# Altium footprint library common.PcbLib: 92 footprints (part 1 of 6)
Each footprint in its own frame and in the unit in brackets; x right, y up, seen from the top. Pads: shape width x height; smd on the part's side, far side on the other; paste and mask are expansions set on the pad; w line width, h text height; cw(c..) or ccw(c..) is an arc to the next point about the centre after c.
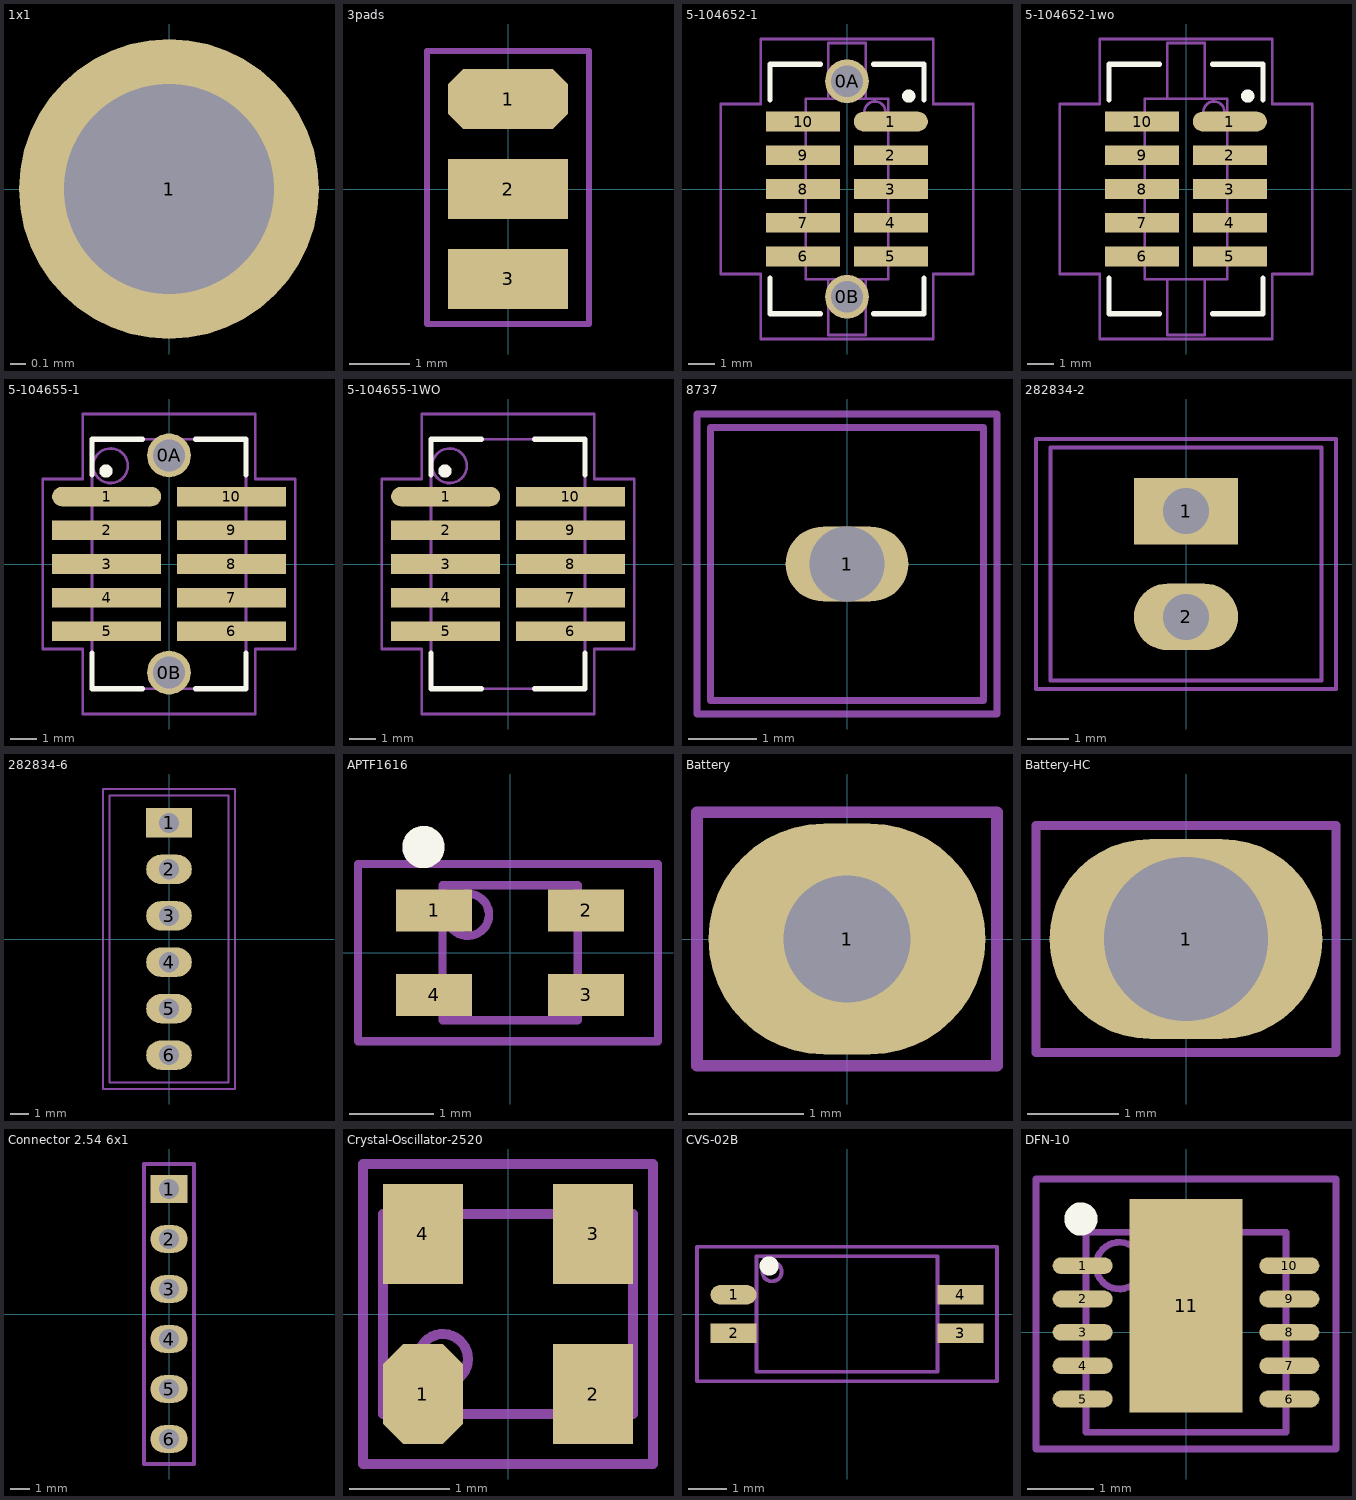
[diagram p0: the footprints below, top view; thin cyan lines are the x and y axes]

## 1x1 [mm] "Single hole connector"
pads (1):
  round 2 hole 1.4: 1(0,0)

## 3pads [mm] "Pads, Body 3x2mm, Pitch 2mm, IPC Low Density"
pads (3):
  oct 2x1 smd: 1(0,1.5)
  rect 2x1 smd: 2(0,0) 3(0,-1.5)
Mechanical 15:
  lines w0.1: -1.35,-2.25 1.35,-2.25 1.35,2.3 -1.35,2.3 -1.35,-2.25

## 5-104652-1 [mm] "2x5 Connector Female, Body 10.82x3.05mm, Pitch 1.27mm, IPC Low Density"
height 4.8
pads (12):
  round 1.65 hole 1.2: 0A(0,4.06) 0B(0,-4.06)
  oval 2.79x0.74 smd: 1(1.65,2.54)
  rect 2.79x0.74 smd: 2(1.65,1.27) 3(1.65,0) 4(1.65,-1.27) 5(1.65,-2.54) 6(-1.65,-2.54) 7(-1.65,-1.27) 8(-1.65,0) 9(-1.65,1.27) 10(-1.65,2.54)
Top Overlay:
  circle w0.25: c2.325,3.5 r0.125
  lines w0.2: -2.9,-3.35 -2.9,-4.7 -1,-4.7 ; -2.9,3.35 -2.9,4.7 -1,4.7 ; 1,-4.7 2.9,-4.7 2.9,-3.35 ; 1,4.7 2.9,4.7 2.9,3.35
Mechanical 13:
  circle w0.1: c1.052,2.9 r0.398
  lines w0.1: -0.7,-3.4 -0.7,-5.5 0.7,-5.5 0.7,-3.4 ; -0.7,3.4 -0.7,5.5 0.7,5.5 0.7,3.4 ; -1.55,-3.4 1.55,-3.4 1.55,3.4 -1.55,3.4 -1.55,-3.4
Mechanical 15:
  lines w0.1: 3.25,5.1 3.25,3.2 ; 3.25,3.2 3.25,5.65 -3.25,5.65 -3.25,3.2 -4.75,3.2 -4.75,-3.2 -3.25,-3.2 -3.25,-5.65 3.25,-5.65 3.25,-3.2 4.75,-3.2 4.75,3.2 3.25,3.2
3D body: height 7.8, standoff 6.45, extent -0.598,-4.67 0.598,-3.472
3D body: height 7.8, standoff 6.45, extent -0.598,3.45 0.598,4.648
3D body: height 2.5, standoff 0, extent -0.7,-5.5 0.7,-3.4
3D body: height 2.5, standoff 0, extent -0.7,3.4 0.7,5.5
3D body: height 4.8, standoff 0, extent -1.55,-3.4 1.55,3.4
3D body: height 6.45, standoff 4.8, extent -2.9,-4.7 2.9,4.7
3D body: height 6.45, standoff 1.65, extent -2.9,-4.7 -1.65,4.7
3D body: height 6.45, standoff 1.65, extent 1.65,-4.7 2.9,4.7
3D body: height 6.45, standoff 3.25, extent -1.65,3.5 1.65,4.7
3D body: height 6.45, standoff 3.25, extent -1.65,-4.7 1.65,-3.5

## 5-104652-1wo [mm] "2x5 Connector Female without holes, Body 10.82x3.05mm, Pitch 1.27mm, IPC Low Density"
height 4.8
pads (10):
  oval 2.79x0.74 smd: 1(1.65,2.54)
  rect 2.79x0.74 smd: 2(1.65,1.27) 3(1.65,0) 4(1.65,-1.27) 5(1.65,-2.54) 6(-1.65,-2.54) 7(-1.65,-1.27) 8(-1.65,0) 9(-1.65,1.27) 10(-1.65,2.54)
Top Overlay:
  circle w0.25: c2.325,3.5 r0.125
  lines w0.2: -2.9,-3.35 -2.9,-4.7 -1,-4.7 ; -2.9,3.35 -2.9,4.7 -1,4.7 ; 1,-4.7 2.9,-4.7 2.9,-3.35 ; 1,4.7 2.9,4.7 2.9,3.35
Mechanical 13:
  circle w0.1: c1.052,2.9 r0.398
  lines w0.1: -0.7,-3.4 -0.7,-5.5 0.7,-5.5 0.7,-3.4 ; -0.7,3.4 -0.7,5.5 0.7,5.5 0.7,3.4 ; -1.55,-3.4 -1.55,3.4 1.55,3.4 1.55,-3.4 -1.55,-3.4
Mechanical 15:
  lines w0.1: 3.25,5.1 3.25,3.2 ; 3.25,3.2 4.75,3.2 4.75,-3.2 3.25,-3.2 3.25,-5.65 -3.25,-5.65 -3.25,-3.2 -4.75,-3.2 -4.75,3.2 -3.25,3.2 -3.25,5.65 3.25,5.65 3.25,3.2
3D body: height 6.45, standoff 3.25, extent -1.65,-4.7 1.65,-3.5
3D body: height 6.45, standoff 3.25, extent -1.65,3.5 1.65,4.7
3D body: height 6.45, standoff 1.65, extent 1.65,-4.7 2.9,4.7
3D body: height 6.45, standoff 1.65, extent -2.9,-4.7 -1.65,4.7
3D body: height 6.45, standoff 4.8, extent -2.9,-4.7 2.9,4.7
3D body: height 4.8, standoff 0, extent -1.55,-3.4 1.55,3.4
3D body: height 2.5, standoff 0, extent -0.7,3.4 0.7,5.5
3D body: height 2.5, standoff 0, extent -0.7,-5.5 0.7,-3.4
3D body: height 7.8, standoff 6.45, extent -0.598,3.45 0.598,4.648
3D body: height 7.8, standoff 6.45, extent -0.598,-4.67 0.598,-3.472

## 5-104655-1 [mm] "2x5 Connector Male, Body 9.44x5.71mm, Pitch 1.27mm, IPC Low Density"
height 5.73
pads (12):
  round 1.65 hole 1.2: 0A(0,4.09) 0B(0,-4.09)
  oval 4.11x0.735 smd: 1(-2.35,2.54)
  rect 4.11x0.735 smd: 2(-2.35,1.27) 3(-2.35,0) 4(-2.35,-1.27) 5(-2.35,-2.54) 6(2.35,-2.54) 7(2.35,-1.27) 8(2.35,0) 9(2.35,1.27) 10(2.35,2.54)
Top Overlay:
  circle w0.25: c-2.375,3.5 r0.125
  lines w0.2: -2.9,-3.35 -2.9,-4.7 -1,-4.7 ; -2.9,3.35 -2.9,4.7 -1,4.7 ; 1,-4.7 2.9,-4.7 2.9,-3.35 ; 1,4.7 2.9,4.7 2.9,3.35
Mechanical 13:
  circle w0.1: c-2.202,3.7 r0.652
  lines w0.1: -2.9,-4.7 -2.9,4.7 2.9,4.7 2.9,-4.7 -2.9,-4.7
Mechanical 15:
  lines w0.1: 3.25,5.1 3.25,3.2 ; 3.25,3.2 4.75,3.2 4.75,-3.2 3.25,-3.2 3.25,-5.65 -3.25,-5.65 -3.25,-3.2 -4.75,-3.2 -4.75,3.2 -3.25,3.2 -3.25,5.65 3.25,5.65 3.25,3.2
3D body: height 6.45, standoff 3.95, extent -0.7,-5.45 0.7,-3.4
3D body: height 6.45, standoff 3.95, extent -0.7,3.4 0.7,5.45
3D body: height 6.45, standoff 1.65, extent -2.25,0.65 -1.55,3.4
3D body: height 6.45, standoff 1.65, extent -1.55,-3.4 1.55,3.4
3D body: height 5.8, standoff 0, extent -2.9,0.55 -2.3,3.45
3D body: height 1.65, standoff 0, extent -2.3,-3.45 1.65,3.45
3D body: height 3.1, standoff 0, extent -1,3.45 1,4.7
3D body: height 3.1, standoff 0, extent -1,-4.7 1,-3.45
3D body: height 5.8, standoff 0, extent 1,-4.7 2.9,-3.45
3D body: height 5.8, standoff 0, extent -2.9,-4.7 -1,-3.45
3D body: height 5.8, standoff 0, extent 1,3.45 2.9,4.725
3D body: height 5.8, standoff 0, extent -2.9,3.45 -1,4.7
3D body: height 5.8, standoff 0, extent 1.65,-4.7 2.9,4.7
3D body: height 5.8, standoff 0, extent -2.9,-4.7 -1.65,0.6
3D body: height 7.8, standoff 6.45, extent -0.598,3.55 0.598,4.748
3D body: height 7.8, standoff 6.45, extent -0.598,-4.63 0.598,-3.432

## 5-104655-1WO [mm] "2x5 Connector Male without holes, Body 9.44x5.71mm, Pitch 1.27mm, IPC Low Density"
height 5.73
pads (10):
  oval 4.11x0.735 smd: 1(-2.35,2.54)
  rect 4.11x0.735 smd: 2(-2.35,1.27) 3(-2.35,0) 4(-2.35,-1.27) 5(-2.35,-2.54) 6(2.35,-2.54) 7(2.35,-1.27) 8(2.35,0) 9(2.35,1.27) 10(2.35,2.54)
Top Overlay:
  circle w0.25: c-2.375,3.5 r0.125
  lines w0.2: -2.9,-3.35 -2.9,-4.7 -1,-4.7 ; -2.9,3.35 -2.9,4.7 -1,4.7 ; 1,-4.7 2.9,-4.7 2.9,-3.35 ; 1,4.7 2.9,4.7 2.9,3.35
Mechanical 13:
  circle w0.1: c-2.202,3.7 r0.652
  lines w0.1: -2.9,-4.7 -2.9,4.7 2.9,4.7 2.9,-4.7 -2.9,-4.7
Mechanical 15:
  lines w0.1: 3.25,5.1 3.25,3.2 ; 3.25,3.2 4.75,3.2 4.75,-3.2 3.25,-3.2 3.25,-5.65 -3.25,-5.65 -3.25,-3.2 -4.75,-3.2 -4.75,3.2 -3.25,3.2 -3.25,5.65 3.25,5.65 3.25,3.2
3D body: height 7.8, standoff 6.45, extent -0.598,-4.63 0.598,-3.432
3D body: height 7.8, standoff 6.45, extent -0.598,3.55 0.598,4.748
3D body: height 6.45, standoff 3.95, extent -0.7,-5.45 0.7,-3.4
3D body: height 6.45, standoff 3.95, extent -0.7,3.4 0.7,5.45
3D body: height 6.45, standoff 1.65, extent -2.25,0.65 -1.55,3.4
3D body: height 6.45, standoff 1.65, extent -1.55,-3.4 1.55,3.4
3D body: height 5.8, standoff 0, extent -2.9,0.55 -2.3,3.45
3D body: height 1.65, standoff 0, extent -2.3,-3.45 1.65,3.45
3D body: height 3.1, standoff 0, extent -1,3.45 1,4.7
3D body: height 3.1, standoff 0, extent -1,-4.7 1,-3.45
3D body: height 5.8, standoff 0, extent 1,-4.7 2.9,-3.45
3D body: height 5.8, standoff 0, extent -2.9,-4.7 -1,-3.45
3D body: height 5.8, standoff 0, extent 1,3.45 2.9,4.725
3D body: height 5.8, standoff 0, extent -2.9,3.45 -1,4.7
3D body: height 5.8, standoff 0, extent 1.65,-4.7 2.9,4.7
3D body: height 5.8, standoff 0, extent -2.9,-4.7 -1.65,0.6

## 8737 [mm] "1-pin wire-to-board connector, 4x4mm, Pitch 2.54mm, IPC Low Density"
height 6.5
pads (1):
  oval 1.8x1.1 hole 1.1: 1(0,0)
Mechanical 13:
  lines w0.1: -2,-2 -2,2 2,2 2,-2 -2,-2
Mechanical 15:
  lines w0.1: -2.2,-2.2 2.2,-2.2 2.2,2.2 -2.2,2.2 -2.2,-2.2
3D body: height 6.5, standoff 0.5, extent -2,-2 2,2

## 282834-2 [mm] "2-pin wire-to-board connector, 5.54x6.5mm, Pitch 2.54mm, IPC Low Density"
height 10
pads (2):
  rect 2.5x1.6 hole 1.1: 1(0,1.27)
  oval 2.5x1.6 hole 1.1: 2(0,-1.27)
Mechanical 13:
  lines w0.1: -3.25,-2.8 -3.25,2.8 3.25,2.8 3.25,-2.8 -3.25,-2.8
Mechanical 15:
  lines w0.1: -3.6,-3 3.6,-3 3.6,3 -3.6,3 -3.6,-3
3D body: height 10, standoff -3.4, extent -3.25,-2.77 3.25,2.77

## 282834-6 [mm] "6-pin wire-to-board connector, 15.7x6.5mm, Pitch 2.54mm, IPC Low Density"
height 10
pads (6):
  rect 2.5x1.6 hole 1.1: 1(0,6.35)
  oval 2.5x1.6 hole 1.1: 2(0,3.81) 3(0,1.27) 4(0,-1.27) 5(0,-3.81) 6(0,-6.35)
Mechanical 13:
  lines w0.1: -3.25,-7.85 -3.25,7.85 3.25,7.85 3.25,-7.85 -3.25,-7.85
Mechanical 15:
  lines w0.1: -3.6,-8.2 3.6,-8.2 3.6,8.2 -3.6,8.2 -3.6,-8.2
3D body: height 10, standoff -3.4, extent -3.25,-7.85 3.25,7.85

## APTF1616 [mm] "LED, Body 1.6x1.6mm, Pitch 0.85mm, IPC Low Density"
height 0.7
pads (4):
  rect 0.9x0.5 smd: 1(-0.9,0.5) 2(0.9,0.5) 3(0.9,-0.5) 4(-0.9,-0.5)
Top Overlay:
  circle w0.25: c-1.025,1.25 r0.125
Mechanical 13:
  circle w0.1: c-0.5,0.45 r0.25
  lines w0.1: -0.8,-0.8 0.8,-0.8 0.8,0.8 -0.8,0.8 -0.8,-0.8
Mechanical 15:
  lines w0.1: -1.8,-1.05 1.75,-1.05 1.75,1.05 -1.8,1.05 -1.8,-1.05
3D body: height 0.4, standoff 0, extent -0.8,-0.8 0.8,0.8

## Battery [mm] "Battery connector, hole 1.1mm"
pads (1):
  oval 2.4x2 hole 1.1: 1(0,0)
Mechanical 15:
  lines w0.1: -1.3,-1.1 -1.3,1.1 1.3,1.1 1.3,-1.1 -1.3,-1.1

## Battery-HC [mm] "High current battery connector, hole 1.8mm"
pads (1):
  oval 3x2.2 hole 1.8: 1(0,0)
Mechanical 15:
  lines w0.1: -1.65,-1.25 1.65,-1.25 1.65,1.25 -1.65,1.25 -1.65,-1.25

## Connector 2.54 6x1 [mm] "6-pin through-hole connector, pitch 2.54mm, hole size 0.8mm"
pads (6):
  rect 1.9x1.4 hole 1: 1(0,6.35)
  oval 1.9x1.4 hole 1: 2(0,3.81) 3(0,1.27) 4(0,-1.27) 5(0,-3.81) 6(0,-6.35)
Mechanical 13:
  lines w0.2: -1.27,-7.62 -1.27,7.62 1.27,7.62 1.27,-7.62 -1.27,-7.62

## Crystal-Oscillator-2520 [mm] "Crystal Package, Body 2.5x2.0mm, Pitch 1.65mm, IPC Low Density"
height 0.8
pads (4):
  oct 0.8x1 smd: 1(-0.85,-0.8)
  rect 0.8x1 smd: 2(0.85,-0.8) 3(0.85,0.8) 4(-0.85,0.8)
Mechanical 13:
  circle w0.1: c-0.65,-0.45 r0.25
  lines w0.1: -1.25,-1 1.25,-1 1.25,1 -1.25,1 -1.25,-1
Mechanical 15:
  lines w0.1: -1.45,-1.5 1.45,-1.5 1.45,1.5 -1.45,1.5 -1.45,-1.5
3D body: height 0.8, standoff 0, extent -1.25,-1 1.25,1

## CVS-02B [mm] "Double DIP Switch, Body 4.7x3.0mm, Pitch 1mm, IPC Low Density"
height 1.5
pads (4):
  oval 1.2x0.5 smd: 1(-2.95,0.5)
  rect 1.2x0.5 smd: 2(-2.95,-0.5) 3(2.95,-0.5) 4(2.95,0.5)
Top Overlay:
  circle w0.25: c-2.025,1.25 r0.125
Mechanical 13:
  circle w0.1: c-1.95,1.1 r0.25
  lines w0.1: -2.35,-1.5 -2.35,1.5 2.35,1.5 2.35,-1.5 -2.35,-1.5
Mechanical 15:
  lines w0.1: -3.9,-1.75 -3.9,1.75 3.9,1.75 3.9,-1.75 -3.9,-1.75
3D body: height 1.5, standoff 0, extent -2.35,-1.5 2.35,1.5

## DFN-10 [mm] "DFN, 10-Leads, Body 3x3mm, Pitch 0.5mm, IPC Low Density"
height 0.75
pads (11):
  oval 0.9x0.25 smd: 1(-1.55,1) 2(-1.55,0.5) 3(-1.55,0) 4(-1.55,-0.5) 5(-1.55,-1) 6(1.55,-1) 7(1.55,-0.5) 8(1.55,0) 9(1.55,0.5) 10(1.55,1)
  rect 1.7x3.2 smd: 11(0,0.4)
Top Overlay:
  circle w0.25: c-1.575,1.7 r0.125
Mechanical 13:
  circle w0.1: c-1,1 r0.35
  lines w0.1: -1.5,-1.5 -1.5,1.5 ; -1.5,-1.5 -1.5,1.5 ; -1.5,-1.5 1.5,-1.5 1.5,1.5 -1.5,1.5
Mechanical 15:
  lines w0.1: -2.25,-1.75 2.25,-1.75 2.25,2.3 -2.25,2.3 -2.25,-1.75
3D body: height 0.75, standoff 0, extent -1.5,-1.5 1.5,1.5